# Altium footprint library Connector.PcbLib: 47 footprints (part 3 of 3)
Each footprint in its own frame and in the unit in brackets; x right, y up, seen from the top. Pads: shape width x height; smd on the part's side, far side on the other; paste and mask are expansions set on the pad; w line width, h text height; cw(c..) or ccw(c..) is an arc to the next point about the centre after c.
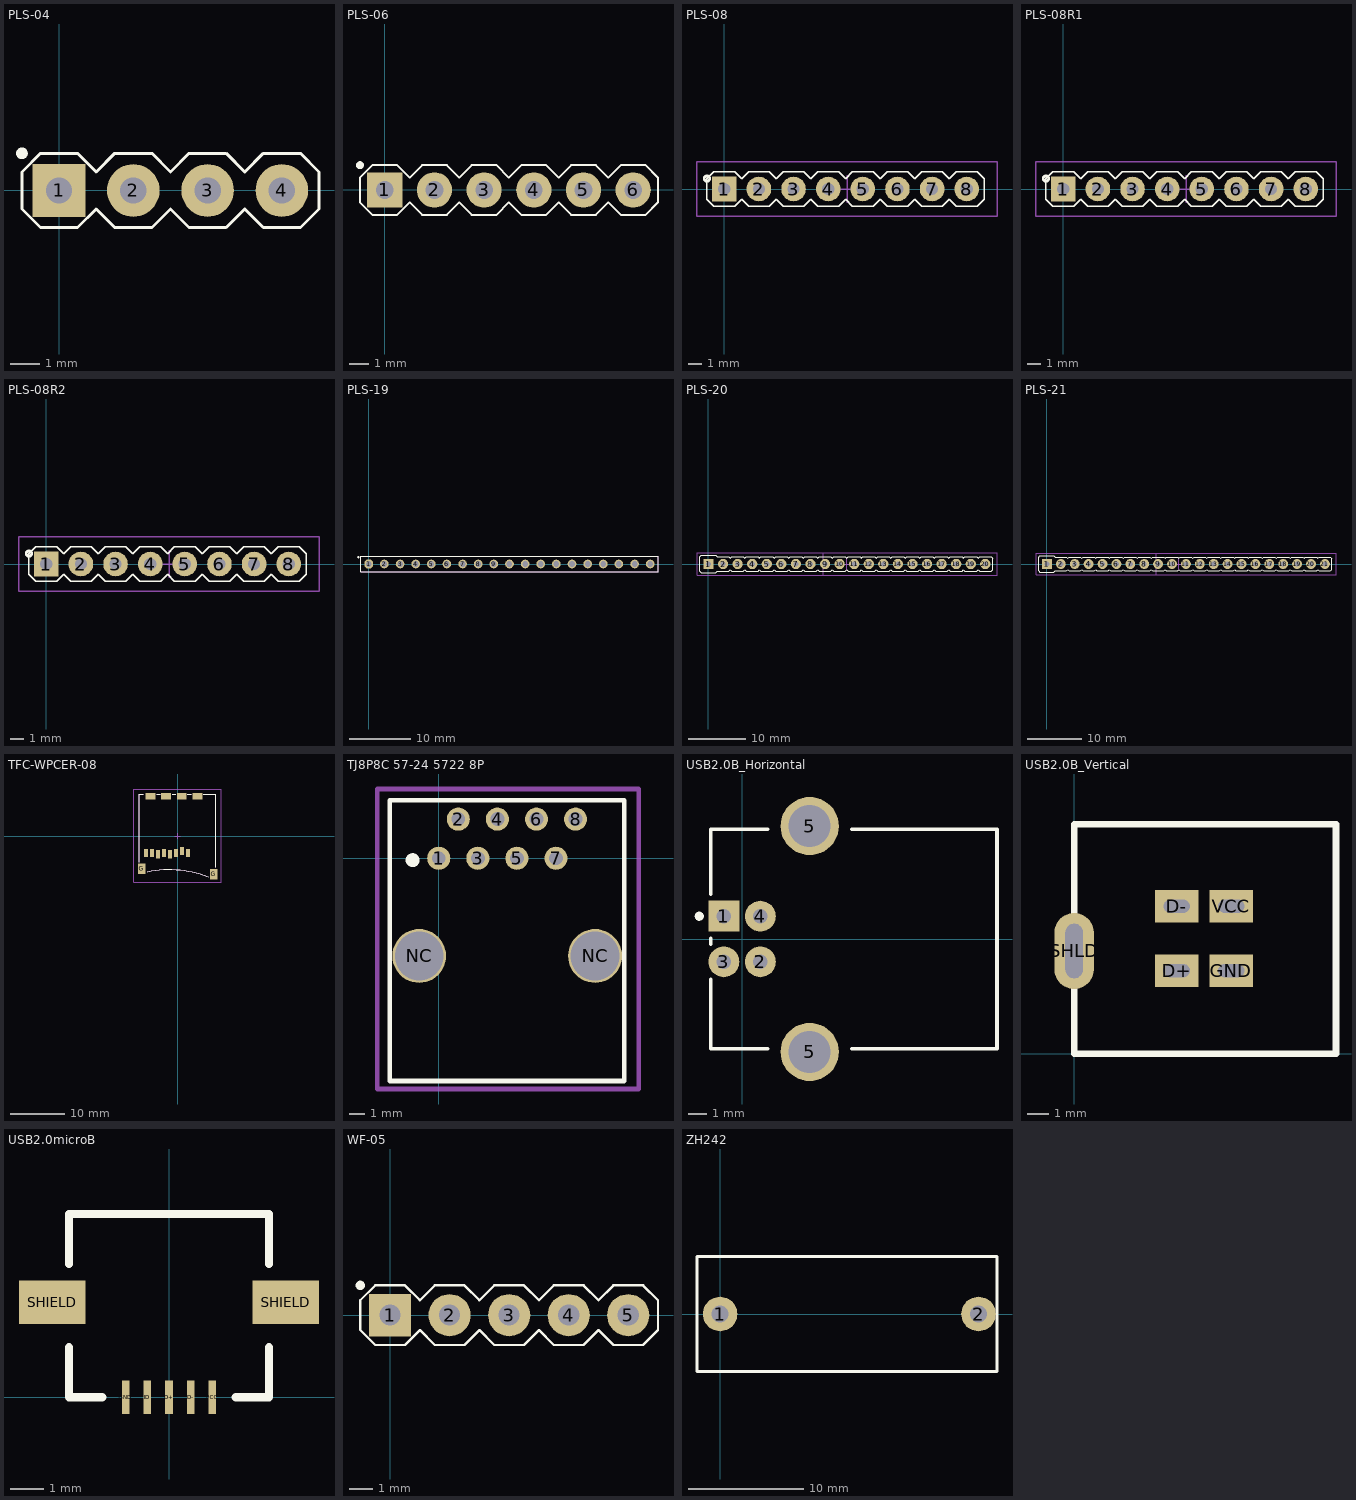
[diagram p2: the footprints below, top view; thin cyan lines are the x and y axes]

## PLS-04 [mm] "вилка на плату"
height 8.5
pads (4):
  rect 1.8x1.8 hole 0.9: 1(0,0)
  round 1.8 hole 0.9: 2(2.54,0) 3(5.08,0) 4(7.62,0)
Top Overlay:
  circle w0.2: c-1.27,1.27 r0.1
  lines w0.1: -1.27,-0.635 -1.27,0.635 -0.635,1.27 0.635,1.27 1.27,0.635 1.905,1.27 3.175,1.27 3.81,0.635 4.445,1.27 5.715,1.27 6.35,0.635 6.985,1.27 8.255,1.27 8.89,0.635 8.89,-0.635 8.255,-1.27 6.985,-1.27 6.35,-0.635 5.715,-1.27 4.445,-1.27 3.81,-0.635 3.175,-1.27 1.905,-1.27 1.27,-0.635 0.635,-1.27 -0.635,-1.27 -1.27,-0.635
3D body "PLS-02.stp": height 8.6, standoff -2.9, extent 3.81,-1.25 8.891,1.25
3D body "PLS-02.stp": height 8.6, standoff -2.9, extent -1.27,-1.25 3.811,1.25

## PLS-06 [mm] "вилка на плату"
height 8.5
pads (6):
  rect 1.8x1.8 hole 0.9: 1(0,0)
  round 1.8 hole 0.9: 2(2.54,0) 3(5.08,0) 4(7.62,0) 5(10.16,0) 6(12.7,0)
Top Overlay:
  circle w0.2: c-1.27,1.27 r0.1
  lines w0.1: -1.27,-0.635 -0.635,-1.27 0.635,-1.27 1.27,-0.635 1.905,-1.27 3.175,-1.27 3.81,-0.635 4.445,-1.27 5.715,-1.27 6.35,-0.635 6.985,-1.27 8.255,-1.27 8.89,-0.635 9.525,-1.27 10.795,-1.27 11.43,-0.635 12.065,-1.27 13.335,-1.27 13.97,-0.635 13.97,0.635 13.335,1.27 12.065,1.27 11.43,0.635 10.795,1.27 9.525,1.27 8.89,0.635 8.255,1.27 6.985,1.27 6.35,0.635 5.715,1.27 4.445,1.27 3.81,0.635 3.175,1.27 1.905,1.27 1.27,0.635 0.635,1.27 -0.635,1.27 -1.27,0.635 -1.27,-0.635
3D body "PLS-02.stp": height 8.6, standoff -2.9, extent 8.89,-1.25 13.971,1.25
3D body "PLS-02.stp": height 8.6, standoff -2.9, extent -1.27,-1.25 3.811,1.25
3D body "PLS-02.stp": height 8.6, standoff -2.9, extent 3.81,-1.25 8.891,1.25

## PLS-08 [mm] "вилка на плату"
height 8.5
pads (8):
  rect 1.8x1.8 hole 0.9: 1(0,0)
  round 1.8 hole 0.9: 2(2.54,0) 3(5.08,0) 4(7.62,0) 5(10.16,0) 6(12.7,0) 7(15.24,0) 8(17.78,0)
Top Overlay:
  circle w0.2: c-1.27,0.762 r0.2
  lines w0.1: -1.27,-0.762 -0.762,-1.27 0,-1.27 0.762,-1.27 1.27,-0.762 1.778,-1.27 2.54,-1.27 3.302,-1.27 3.81,-0.762 4.318,-1.27 5.08,-1.27 5.842,-1.27 6.35,-0.762 6.858,-1.27 7.62,-1.27 8.382,-1.27 8.89,-0.762 9.398,-1.27 10.16,-1.27 10.922,-1.27 11.43,-0.762 11.938,-1.27 12.7,-1.27 13.462,-1.27 13.97,-0.762 14.478,-1.27 15.24,-1.27 16.002,-1.27 16.51,-0.762 17.018,-1.27 17.78,-1.27 18.542,-1.27 19.05,-0.762 19.05,0.762 18.542,1.27 17.78,1.27 17.018,1.27 16.51,0.762 16.002,1.27 15.24,1.27 14.478,1.27 13.97,0.762 13.462,1.27 12.7,1.27 11.938,1.27 11.43,0.762 10.922,1.27 10.16,1.27 9.398,1.27 8.89,0.762 8.382,1.27 7.62,1.27 6.858,1.27 6.35,0.762 5.842,1.27 5.08,1.27 4.318,1.27 3.81,0.762 3.302,1.27 2.54,1.27 1.778,1.27 1.27,0.762 0.762,1.27 0,1.27 -0.762,1.27 -1.27,0.762 -1.27,-0.762
Mechanical 13:
  lines w0.1: -2,-2 -2,2 20,2 20,-2 -2,-2
Mechanical 15:
  lines w0.1: 8,0 10,0 ; 9,-1 9,1 ; -2,-2 -2,2 20,2 20,-2 -2,-2
3D body "PLS-08.stp": height 8.6, standoff -2.9, extent -1.27,-1.25 19.057,1.25

## PLS-08R1 [mm] "угловая вилка на плату"
height 5
pads (8):
  rect 1.8x1.8 hole 0.9: 1(0,0)
  round 1.8 hole 0.9: 2(2.54,0) 3(5.08,0) 4(7.62,0) 5(10.16,0) 6(12.7,0) 7(15.24,0) 8(17.78,0)
Top Overlay:
  circle w0.2: c-1.27,0.762 r0.2
  lines w0.1: -1.27,-0.762 -1.27,0.762 -0.762,1.27 0,1.27 0.762,1.27 1.27,0.762 1.778,1.27 2.54,1.27 3.302,1.27 3.81,0.762 4.318,1.27 5.08,1.27 5.842,1.27 6.35,0.762 6.858,1.27 7.62,1.27 8.382,1.27 8.89,0.762 9.398,1.27 10.16,1.27 10.922,1.27 11.43,0.762 11.938,1.27 12.7,1.27 13.462,1.27 13.97,0.762 14.478,1.27 15.24,1.27 16.002,1.27 16.51,0.762 17.018,1.27 17.78,1.27 18.542,1.27 19.05,0.762 19.05,-0.762 18.542,-1.27 17.78,-1.27 17.018,-1.27 16.51,-0.762 16.002,-1.27 15.24,-1.27 14.478,-1.27 13.97,-0.762 13.462,-1.27 12.7,-1.27 11.938,-1.27 11.43,-0.762 10.922,-1.27 10.16,-1.27 9.398,-1.27 8.89,-0.762 8.382,-1.27 7.62,-1.27 6.858,-1.27 6.35,-0.762 5.842,-1.27 5.08,-1.27 4.318,-1.27 3.81,-0.762 3.302,-1.27 2.54,-1.27 1.778,-1.27 1.27,-0.762 0.762,-1.27 0,-1.27 -0.762,-1.27 -1.27,-0.762
Mechanical 13:
  lines w0.1: -2,-2 20,-2 20,2 -2,2 -2,-2
Mechanical 15:
  lines w0.1: 8,0 10,0 ; 9,-1 9,1 ; -2,-2 20,-2 20,2 -2,2 -2,-2
3D body "PLS-08R.stp": height 6.1, standoff -2.9, extent -1.277,-1.25 19.05,6

## PLS-08R2 [mm] "угловая вилка на плату"
height 5
pads (8):
  rect 1.8x1.8 hole 0.9: 1(0,0)
  round 1.8 hole 0.9: 2(2.54,0) 3(5.08,0) 4(7.62,0) 5(10.16,0) 6(12.7,0) 7(15.24,0) 8(17.78,0)
Top Overlay:
  circle w0.2: c-1.27,0.762 r0.2
  lines w0.1: -1.27,-0.762 -0.762,-1.27 0,-1.27 0.762,-1.27 1.27,-0.762 1.778,-1.27 2.54,-1.27 3.302,-1.27 3.81,-0.762 4.318,-1.27 5.08,-1.27 5.842,-1.27 6.35,-0.762 6.858,-1.27 7.62,-1.27 8.382,-1.27 8.89,-0.762 9.398,-1.27 10.16,-1.27 10.922,-1.27 11.43,-0.762 11.938,-1.27 12.7,-1.27 13.462,-1.27 13.97,-0.762 14.478,-1.27 15.24,-1.27 16.002,-1.27 16.51,-0.762 17.018,-1.27 17.78,-1.27 18.542,-1.27 19.05,-0.762 19.05,0.762 18.542,1.27 17.78,1.27 17.018,1.27 16.51,0.762 16.002,1.27 15.24,1.27 14.478,1.27 13.97,0.762 13.462,1.27 12.7,1.27 11.938,1.27 11.43,0.762 10.922,1.27 10.16,1.27 9.398,1.27 8.89,0.762 8.382,1.27 7.62,1.27 6.858,1.27 6.35,0.762 5.842,1.27 5.08,1.27 4.318,1.27 3.81,0.762 3.302,1.27 2.54,1.27 1.778,1.27 1.27,0.762 0.762,1.27 0,1.27 -0.762,1.27 -1.27,0.762 -1.27,-0.762
Mechanical 13:
  lines w0.1: -2,-2 -2,2 20,2 20,-2 -2,-2
Mechanical 15:
  lines w0.1: 8,0 10,0 ; 9,-1 9,1 ; -2,-2 -2,2 20,2 20,-2 -2,-2
3D body "PLS-08R.stp": height 6.1, standoff -2.9, extent -1.27,-6 19.057,1.25

## PLS-19 [mm]
pads (19):
  oct 1.4x1.4 hole 0.9: 1(0,0)
  round 1.4 hole 0.9: 2(2.54,0) 3(5.08,0) 4(7.62,0) 5(10.16,0) 6(12.7,0) 7(15.24,0) 8(17.78,0) 9(20.32,0) 10(22.86,0) 11(25.4,0) 12(27.94,0) 13(30.48,0) 14(33.02,0) 15(35.56,0) 16(38.1,0) 17(40.64,0) 18(43.18,0) 19(45.72,0)
Top Overlay:
  circle w0.254: c-1.7,1.1 r0.05
  lines w0.2: -1.27,-1.27 -1.27,1.27 46.99,1.27 46.99,-1.27 -1.27,-1.27
Mechanical 15:
  lines w0.2: -1.27,-1.27 46.99,-1.27 46.99,1.27 -1.27,1.27 -1.27,-1.27
3D body "PLS-01.stp": height 8.5, standoff -3, extent 44.45,-1.25 46.99,1.25
3D body "PLS-02.stp": height 8.5, standoff -3, extent 39.37,-1.25 44.451,1.25
3D body "PLS-08.stp": height 8.5, standoff -3, extent 19.05,-1.25 39.377,1.25
3D body "PLS-08.stp": height 8.5, standoff -3, extent -1.27,-1.25 19.057,1.25

## PLS-20 [mm] "вилка на плату"
height 8.5
pads (20):
  rect 1.8x1.8 hole 0.9: 1(0,0)
  round 1.8 hole 0.9: 2(2.54,0) 3(5.08,0) 4(7.62,0) 5(10.16,0) 6(12.7,0) 7(15.24,0) 8(17.78,0) 9(20.32,0) 10(22.86,0) 11(25.4,0) 12(27.94,0) 13(30.48,0) 14(33.02,0) 15(35.56,0) 16(38.1,0) 17(40.64,0) 18(43.18,0) 19(45.72,0) 20(48.26,0)
Top Overlay:
  lines w0.2: -1.524,-1.27 -1.524,1.016 -1.524,1.27 -1.27,1.524 1.27,1.524 1.524,1.27 3.556,1.27 3.81,1.016 4.064,1.27 6.096,1.27 6.35,1.016 6.604,1.27 8.636,1.27 8.89,1.016 9.144,1.27 11.176,1.27 11.43,1.016 11.684,1.27 13.716,1.27 13.97,1.016 14.224,1.27 16.256,1.27 16.51,1.016 16.764,1.27 18.796,1.27 19.05,1.016 19.304,1.27 21.336,1.27 21.59,1.016 21.844,1.27 23.876,1.27 24.13,1.016 24.384,1.27 26.416,1.27 26.67,1.016 26.924,1.27 28.956,1.27 29.21,1.016 29.464,1.27 31.496,1.27 31.75,1.016 32.004,1.27 34.036,1.27 34.29,1.016 34.544,1.27 36.576,1.27 36.83,1.016 37.084,1.27 39.116,1.27 39.37,1.016 39.624,1.27 41.656,1.27 41.91,1.016 42.164,1.27 44.196,1.27 44.45,1.016 44.704,1.27 46.736,1.27 46.99,1.016 47.244,1.27 49.276,1.27 49.53,1.016 49.53,-1.016 49.276,-1.27 47.244,-1.27 46.99,-1.016 46.736,-1.27 44.704,-1.27 44.45,-1.016 44.196,-1.27 42.164,-1.27 41.91,-1.016 41.656,-1.27 39.624,-1.27 39.37,-1.016 39.116,-1.27 37.084,-1.27 36.83,-1.016 36.576,-1.27 34.544,-1.27 34.29,-1.016 34.036,-1.27 32.004,-1.27 31.75,-1.016 31.496,-1.27 29.464,-1.27 29.21,-1.016 28.956,-1.27 26.924,-1.27 26.67,-1.016 26.416,-1.27 24.384,-1.27 24.13,-1.016 23.876,-1.27 21.844,-1.27 21.59,-1.016 21.336,-1.27 19.304,-1.27 19.05,-1.016 18.796,-1.27 16.764,-1.27 16.51,-1.016 16.256,-1.27 14.224,-1.27 13.97,-1.016 13.716,-1.27 11.684,-1.27 11.43,-1.016 11.176,-1.27 9.144,-1.27 8.89,-1.016 8.636,-1.27 6.604,-1.27 6.35,-1.016 6.096,-1.27 4.064,-1.27 3.81,-1.016 3.556,-1.27 1.524,-1.27 1.27,-1.524 -1.27,-1.524 -1.524,-1.27
Mechanical 13:
  lines w0.1: -2,-2 20,-2 20,2 -2,2 -2,-2
Mechanical 15:
  lines w0.1: 23.13,0 25.13,0 ; 24.13,-1 24.13,1 ; -2,-2 50.292,-2 50.292,2 -2,2 -2,-2
3D body "PLS-08.stp": height 8.6, standoff -2.9, extent 19.05,-1.25 39.377,1.25
3D body "PLS-08.stp": height 8.6, standoff -2.9, extent -1.27,-1.25 19.057,1.25
3D body "PLS-02.stp": height 8.6, standoff -2.9, extent 39.37,-1.25 44.451,1.25
3D body "PLS-02.stp": height 8.6, standoff -2.9, extent 44.45,-1.25 49.531,1.25

## PLS-21 [mm] "вилка на плату"
height 8.5
pads (21):
  rect 1.8x1.8 hole 0.9: 1(0,0)
  round 1.8 hole 0.9: 2(2.54,0) 3(5.08,0) 4(7.62,0) 5(10.16,0) 6(12.7,0) 7(15.24,0) 8(17.78,0) 9(20.32,0) 10(22.86,0) 11(25.4,0) 12(27.94,0) 13(30.48,0) 14(33.02,0) 15(35.56,0) 16(38.1,0) 17(40.64,0) 18(43.18,0) 19(45.72,0) 20(48.26,0) 21(50.8,0)
Top Overlay:
  lines w0.2: -1.524,-1.27 -1.27,-1.524 1.27,-1.524 1.524,-1.27 3.556,-1.27 3.81,-1.016 4.064,-1.27 6.096,-1.27 6.35,-1.016 6.604,-1.27 8.636,-1.27 8.89,-1.016 9.144,-1.27 11.176,-1.27 11.43,-1.016 11.684,-1.27 13.716,-1.27 13.97,-1.016 14.224,-1.27 16.256,-1.27 16.51,-1.016 16.764,-1.27 18.796,-1.27 19.05,-1.016 19.304,-1.27 21.336,-1.27 21.59,-1.016 21.844,-1.27 23.876,-1.27 24.13,-1.016 24.384,-1.27 26.416,-1.27 26.67,-1.016 26.924,-1.27 28.956,-1.27 29.21,-1.016 29.464,-1.27 31.496,-1.27 31.75,-1.016 32.004,-1.27 34.036,-1.27 34.29,-1.016 34.544,-1.27 36.576,-1.27 36.83,-1.016 37.084,-1.27 39.116,-1.27 39.37,-1.016 39.624,-1.27 41.656,-1.27 41.91,-1.016 42.164,-1.27 44.196,-1.27 44.45,-1.016 44.704,-1.27 46.736,-1.27 46.99,-1.016 47.244,-1.27 49.276,-1.27 49.53,-1.016 49.784,-1.27 51.816,-1.27 52.07,-1.016 52.07,1.016 51.816,1.27 49.784,1.27 49.53,1.016 49.276,1.27 47.244,1.27 46.99,1.016 46.736,1.27 44.704,1.27 44.45,1.016 44.196,1.27 42.164,1.27 41.91,1.016 41.656,1.27 39.624,1.27 39.37,1.016 39.116,1.27 37.084,1.27 36.83,1.016 36.576,1.27 34.544,1.27 34.29,1.016 34.036,1.27 32.004,1.27 31.75,1.016 31.496,1.27 29.464,1.27 29.21,1.016 28.956,1.27 26.924,1.27 26.67,1.016 26.416,1.27 24.384,1.27 24.13,1.016 23.876,1.27 21.844,1.27 21.59,1.016 21.336,1.27 19.304,1.27 19.05,1.016 18.796,1.27 16.764,1.27 16.51,1.016 16.256,1.27 14.224,1.27 13.97,1.016 13.716,1.27 11.684,1.27 11.43,1.016 11.176,1.27 9.144,1.27 8.89,1.016 8.636,1.27 6.604,1.27 6.35,1.016 6.096,1.27 4.064,1.27 3.81,1.016 3.556,1.27 1.524,1.27 1.27,1.524 -1.27,1.524 -1.524,1.27 -1.524,1.016 -1.524,-1.27
Mechanical 13:
  lines w0.1: -2,-2 -2,2 20,2 20,-2 -2,-2
Mechanical 15:
  lines w0.1: 23.13,0 25.13,0 ; 24.13,-1 24.13,1 ; -2,-2 -2,2 52.832,2 52.832,-2 -2,-2
3D body "PLS-02.stp": height 8.6, standoff -2.9, extent 46.99,-1.25 52.071,1.25
3D body "PLS-02.stp": height 8.6, standoff -2.9, extent 44.45,-1.25 49.531,1.25
3D body "PLS-02.stp": height 8.6, standoff -2.9, extent 39.37,-1.25 44.451,1.25
3D body "PLS-08.stp": height 8.6, standoff -2.9, extent -1.27,-1.25 19.057,1.25
3D body "PLS-08.stp": height 8.6, standoff -2.9, extent 19.05,-1.25 39.377,1.25

## TFC-WPCER-08 [mm] "MicroSD Socket Top Mount Push-push Type"
height 1.78
pads (14):
  rect 0.7x1.5 smd: 1(1.92,-3.1) 2(0.82,-2.7) 3(-0.28,-3.1) 4(-1.38,-3.3) 5(-2.48,-3.1) 6(-3.58,-3.3) 7(-4.68,-3.1) 8(-5.78,-3.1)
  rect 1.4x1.9 smd: G(-6.55,-5.95) G(6.6,-6.95)
  rect 1.8x1.2 smd: G(-2.1,7.3) G(3.6,7.3) S(-4.95,7.3) S(0.75,7.3)
Top Overlay:
  lines w0.15: -7,-4.8 -7,7.6 -6.3,7.6 ; -5.559,-6.554 cw(c-1.571,-26.152) 5.596,-7.48 ; -3.8,7.6 -3.2,7.6 ; -1,7.6 -0.3,7.6 ; 1.8,7.6 2.5,7.6 ; 4.7,7.6 7,7.6 7,-5.7
Mechanical 13:
  lines w0.15: -7,-4.8 -7,7.6 -6.3,7.6 ; -5.559,-6.554 cw(c-1.571,-26.152) 5.596,-7.48 ; -3.8,7.6 -3.2,7.6 ; -1,7.6 -0.3,7.6 ; 1.8,7.6 2.5,7.6 ; 4.7,7.6 7,7.6 7,-5.7
Mechanical 15:
  lines w0.1: -0.5,0 0,0 ; 0,-0.5 0,0 ; 0,0.5 0,0 ; 0.5,0 0,0 ; -8,-8.4 8,-8.4 8,8.6 -8,8.6 -8,-8.4
3D body "microSD.stp": height 2.08, standoff 0, extent -7.2,-7.7 7.2,7.7

## TJ8P8C 57-24 5722 8P [mm]
height 12.6
pads (10):
  round 1.5 hole 0.9: 1(0,0) 2(1.27,2.54) 3(2.54,0) 4(3.81,2.54) 5(5.08,0) 6(6.35,2.54) 7(7.62,0) 8(8.89,2.54)
  round 3.5 hole 3.17: NC(-1.27,-6.35) NC(10.16,-6.35)
Top Overlay:
  circle w0.5: c-1.7,-0.125 r0.2
  lines w0.3: -3.175,-14.48 -3.175,3.78 12.065,3.78 12.065,-14.48 -3.175,-14.48
Mechanical 15:
  lines w0.3: -4,-15 13,-15 13,4.5 -4,4.5 -4,-15

## USB2.0B_Horizontal [mm] "Connector; USB1.1, Type B, Thru-Hole; 4 Position; Right Angle"
height 11.5
pads (6):
  rect 1.7x1.7 hole 0.8: 1(-1,1.25)
  round 1.7 hole 0.8: 2(1,-1.25) 3(-1,-1.25) 4(1,1.25)
  round 3.2 hole 2.3: 5(3.71,-6.2) 5(3.71,6.2)
Top Overlay:
  circle w0.25: c-2.35,1.25 r0.125
  lines w0.2: -1.72,-2.21 -1.72,-6.02 1.41,-6.02 ; -1.72,-0.29 -1.72,0.05 ; -1.72,2.45 -1.72,6.02 1.41,6.02 ; 6.01,-6.02 13.99,-6.02 13.99,6.02 6.01,6.02
3D body "USBR-B-S-F-O-TH.step": height 11.25, standoff -3.47, extent -2.3,-7.449 14,7.449

## USB2.0B_Vertical [mm] "Connector; USB1.1, Type B, Thru-Hole; 4 Position; Right Angle"
height 16
pads (5):
  rect 2x1.5 hole 0.6 slot 1.2 at 0 deg: D+(4.7,3.8) D-(4.7,6.75) GND(7.2,3.8) VCC(7.2,6.75)
  oval 1.8x3.5 hole 0.8 slot 2.5 at 90 deg: SHLD(0,4.7)
Top Overlay:
  lines w0.3: 0,0 0,10.5 12,10.5 12,0 0,0
3D body: height 14, standoff 1, extent 4.15,2.8 5.05,3
3D body: height 14, standoff 1, extent 6.75,2.8 7.65,3
3D body: height 14, standoff 1, extent 6.75,6.9 7.65,7.1
3D body: height 14, standoff 1, extent 4.15,6.9 5.05,7.1
3D body: height 15, standoff 1, extent 3,3 9,6.9
3D body: height 3, standoff 0.2, extent 0.1,0.1 11.9,10.4
3D body: height 16, standoff 1, extent 0,8.5 12,10.5
3D body: height 16, standoff 1, extent 0,0 12,8.5
3D body: height 3, standoff -0.5, extent 0,3.6 0.1,5.8

## USB2.0microB [mm]
height 2.5
pads (7):
  rect 0.225x1 smd: D+(0,0) D-(0.65,0) GND(-1.3,0) ID(-0.65,0) VCC(1.3,0)
  rect 2x1.3 smd: SHIELD(-3.5,2.85) SHIELD(3.5,2.85)
Top Overlay:
  lines w0.254: -3,1.5 -3,0 -2,0 ; -3,4 -3,5.5 3,5.5 3,4 ; 2,0 3,0 3,1.5
3D body "USB3065-30-00-A_revE.step": height 2.59, standoff -0.19, extent -3.891,0 3.891,5.49

## WF-05 [mm] "вилка на плату"
height 10.5
pads (5):
  rect 1.8x1.8 hole 0.9: 1(0,0)
  round 1.8 hole 0.9: 2(2.54,0) 3(5.08,0) 4(7.62,0) 5(10.16,0)
Top Overlay:
  circle w0.2: c-1.27,1.27 r0.1
  lines w0.1: -1.27,-0.635 -0.635,-1.27 0.635,-1.27 1.27,-0.635 1.905,-1.27 3.175,-1.27 3.81,-0.635 4.445,-1.27 5.715,-1.27 6.35,-0.635 6.985,-1.27 8.255,-1.27 8.89,-0.635 9.525,-1.27 10.795,-1.27 11.43,-0.635 11.43,0.635 10.795,1.27 9.525,1.27 8.89,0.635 8.255,1.27 6.985,1.27 6.35,0.635 5.715,1.27 4.445,1.27 3.81,0.635 3.175,1.27 1.905,1.27 1.27,0.635 0.635,1.27 -0.635,1.27 -1.27,0.635 -1.27,-0.635
3D body: height 10.5, standoff -3.5, extent -0.3,-0.3 0.3,0.3
3D body: height 10.5, standoff -3.5, extent 2.24,-0.3 2.84,0.3
3D body: height 10.5, standoff -3.5, extent 4.78,-0.3 5.38,0.3
3D body: height 10.5, standoff -3.5, extent 7.32,-0.3 7.92,0.3
3D body: height 10.5, standoff -3.5, extent 9.86,-0.3 10.46,0.3
3D body: height 3.2, standoff 0.1, extent -1.27,-2.921 11.43,2.921
3D body: height 11.4, standoff 3.2, extent -1.27,2.032 11.43,2.921

## ZH242 [mm] "Держатель предохранителя 5*20 панель на плату"
height 15.5
pads (2):
  round 3 hole 1.5: 1(0,0) 2(22.4,0)
Top Overlay:
  lines w0.254: -2,-5 24,-5 24,5 -0.8,5 -2,5 -2,-5
3D body "ZH242.stp": height 11, standoff -4, extent -0.8,-5 23.2,5